# Altium schematic symbol library Schlib1.SchLib: 4 symbols
Pins are listed as number, name and electrical type; pins without a type are passive.

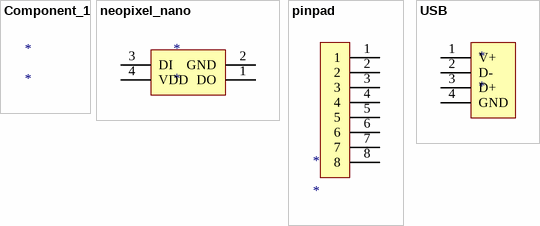
[diagram p0: symbols Component_1 to USB]

## Component_1
designator *

## neopixel_nano
designator *
pins: 1 DO, 2 GND, 3 DI, 4 VDD

## pinpad
designator *
footprint open_pad_8
pins: 1, 2, 3, 4, 5, 6, 7, 8

## USB
designator *
footprint USB A
pins: 1 V+, 2 D-, 3 D+, 4 GND